# Altium integrated library Capacitores.IntLib: 57 symbols (part 2 of 2)
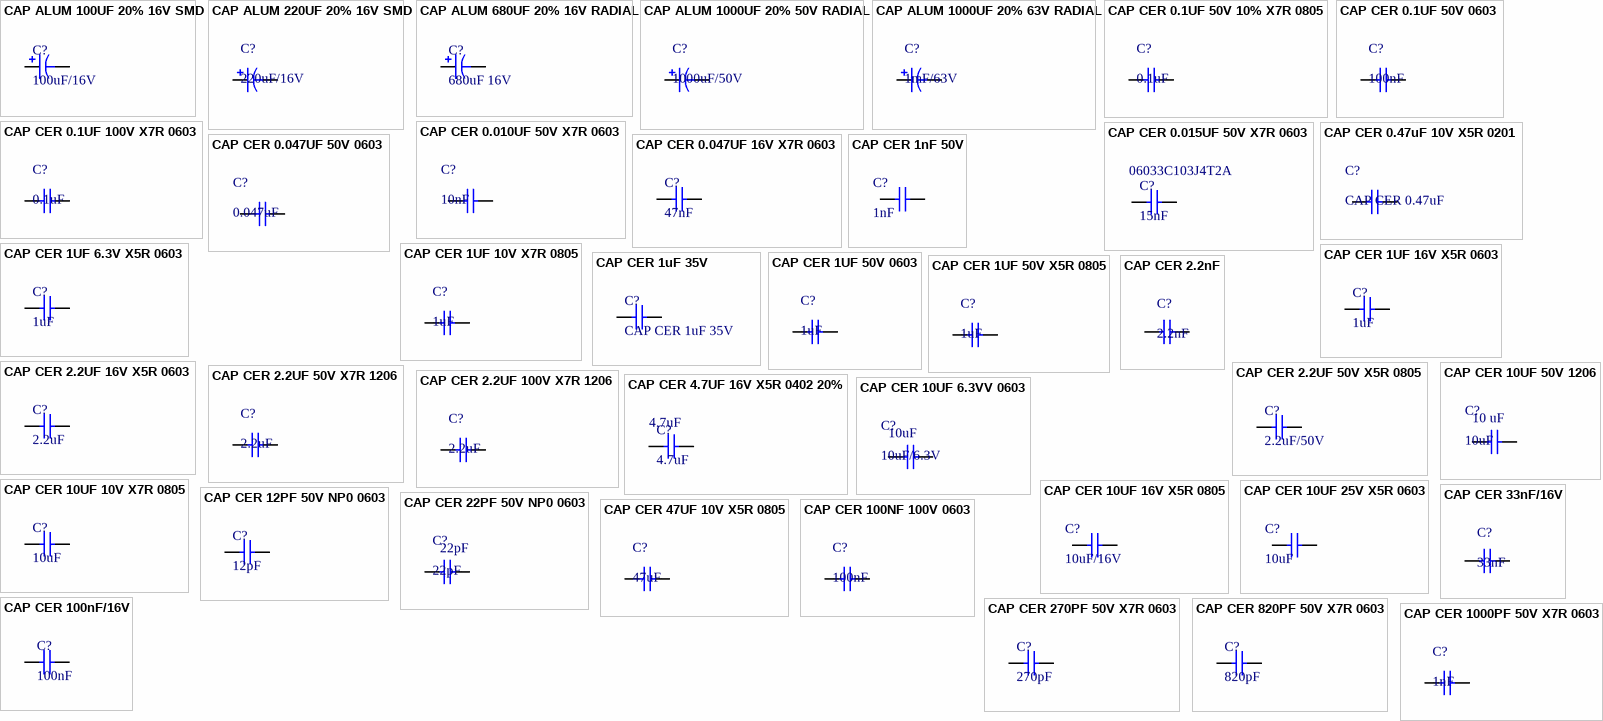
[diagram p2: symbols CAP ALUM 100UF 20% 16V SMD to CAP CER 1000PF 50V X7R 0603]

## CAP CER 1000PF 50V X7R 0603
designator C?, comment 1nF
CAP CER 1000PF 50V X7R 0603; Manufacturer: Murata Electronics North America; Manufacturer Part Number: GRM188R71H102KA01D; Tolerance: ±10%; Supplier 1: Digi-Key; RoHS: RoHS Compliant; Category: Capacitors; Stock 1: 1848606; Pricing 1: 1=0.1, 10=0.02, 50=0.0108, 100=0.0091, 250=0.00744, 500=0.00636, 1000=0.00495 (USD); Packaging: Cut Tape (CT); Part Status: Active; Capacitance: 1000pF; Voltage - Rated: 50V; Temperature Coefficient: X7R; Operating Temperature: -55°C ~ 125°C; Features: -; Ratings: -; Applications: General Purpose; Failure Rate: *; Mounting Type: Surface Mount, MLCC; Package / Case: 0603 (1608 Metric); Size / Dimension: 0.063" L x 0.031" W (1.60mm x 0.80mm); Height - Seated (Max): -; Thickness (Max): 0.035" (0.90mm); Lead Spacing: -; Lead Style: -; ComponentLink1URL: http://www.murata.com/~/media/webrenewal/support/library/catalog/products/capacitor/mlcc/c02e.pdf; ComponentLink1Description: http://www.murata.com/~/media/webrenewal/support/library/catalog/products/capacitor/mlcc/c02e.pdf; Supplier Part Number 1: 490-1494-1-ND
footprint CAP 0603 N (Chip Capacitor, 2-Leads, Body 1,60x0,80mm, IPC Medium Density)
pins: 1, 2

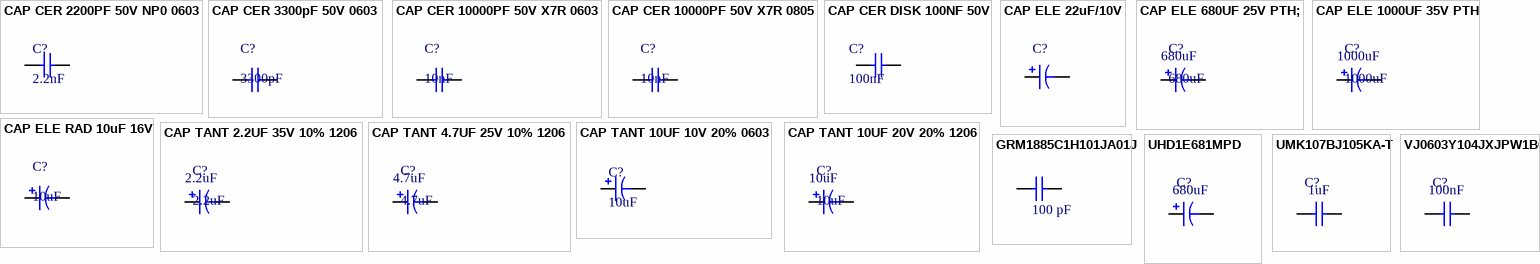
[diagram p1: symbols CAP CER 2200PF 50V NP0 0603 to VJ0603Y104JXJPW1BC]

## CAP CER 2200PF 50V NP0 0603
designator C?, comment 2.2nF
CAP CER 2200PF 50V NP0 0603; Manufacturer: Murata Electronics North America; Manufacturer Part Number: GRM1885C1H222FA01D; Tolerance: ±1%; Temperature Coefficient: C0G, NP0; Supplier 1: Digi-Key; RoHS: RoHS Compliant; Category: Capacitors; Stock 1: 102266; Pricing 1: 1=0.24, 10=0.164, 50=0.0996, 100=0.0836, 250=0.06768, 500=0.0597, 1000=0.05075 (USD); Packaging: Cut Tape (CT); Capacitance: 2200pF; Voltage - Rated: 50V; Mounting Type: Surface Mount, MLCC; Operating Temperature: -55°C ~ 125°C; Applications: General Purpose; Ratings: -; Package / Case: 0603 (1608 Metric); Size / Dimension: 0.063" L x 0.031" W (1.60mm x 0.80mm); Height - Seated (Max): -; Thickness (Max): 0.035" (0.90mm); Lead Spacing: -; Features: -; Lead Style: -; ComponentLink1URL: http://www.murata.com/~/media/webrenewal/support/library/catalog/products/capacitor/mlcc/c02e.pdf; ComponentLink1Description: http://www.murata.com/~/media/webrenewal/support/library/catalog/products/capacitor/mlcc/c02e.pdf; Supplier Part Number 1: 490-7768-1-ND
footprint CAP 0603 N (Chip, Body 1.6x0.8mm, IPC Medium Density)
pins: 1, 2

## CAP CER 3300pF 50V 0603
designator C?, comment 3300pF
Multilayer Ceramic Capacitors MLCC - SMD/SMT 0603 3300pF 50volts X7R 10%; Manufacturer: Murata Electronics; Manufacturer Part Number: GRM188R71H332KA01D; Type: General Purpose MLCC; Voltage Rating DC: 50 VDC; Supplier 1: Mouser; RoHS: RoHS Compliant; Category: Multilayer Ceramic Capacitors MLCC - SMD/SMT; Stock 1: 76987; Pricing 1: 1=0.10, 10=0.019, 100=0.012, 1000=0.009 (USD); Capacitance: 3300pF; Height: 0.8 mm; Length: 1.6 mm; Package / Case: 0603 (1608 metric); Packaging: Reel; Product: General Type MLCCs; Series: GCM; Termination Style: SMD/SMT; Tolerance: 10 %; Width: 0.8 mm; Brand: Murata Electronics; Case Code - in: 0603; Case Code - mm: 1608; Dielectric: X7R; Maximum Operating Temperature: + 125 C; Minimum Operating Temperature: - 55 C; Product Category: Multilayer Ceramic Capacitors MLCC - SMD/SMT; Standard Pack Qty: 4000; RoHS - Mouser: Y; Minimum Order Quantity: 1; Reeling: True; ComponentLink1URL: http://www.mouser.com/ds/2/281/c02e-2905.pdf; ComponentLink1Description: http://www.mouser.com/ds/2/281/c02e-2905.pdf; Supplier Part Number 1: 81-GRM188R71H332KA
footprint CAP CER 0603
pins: 1, 2

## CAP CER 10000PF 50V X7R 0603
designator C?, comment 10nF
CAP CER 10000PF 50V X7R 0603; Manufacturer: Murata Electronics North America; Manufacturer Part Number: GCM188R71H103KA37D; Tolerance: ±10%; Supplier 1: Digi-Key; RoHS: RoHS Compliant; Category: Capacitors; Stock 1: 480655; Pricing 1: 1=0.1, 10=0.042, 50=0.0228, 100=0.0193, 250=0.01576, 500=0.01348, 1000=0.0105 (USD); Packaging: Cut Tape (CT); Part Status: Active; Capacitance: 10000pF; Voltage - Rated: 50V; Temperature Coefficient: X7R; Operating Temperature: -55°C ~ 125°C; Features: -; Ratings: AEC-Q200; Applications: Automotive; Failure Rate: *; Mounting Type: Surface Mount, MLCC; Package / Case: 0603 (1608 Metric); Size / Dimension: 0.063" L x 0.031" W (1.60mm x 0.80mm); Height - Seated (Max): -; Thickness (Max): 0.035" (0.90mm); Lead Spacing: -; Lead Style: -; ComponentLink1URL: http://www.murata.com/~/media/webrenewal/support/library/catalog/products/capacitor/mlcc/c03e.ashx; ComponentLink1Description: http://www.murata.com/~/media/webrenewal/support/library/catalog/products/capacitor/mlcc/c03e.ashx; Supplier Part Number 1: 490-4778-1-ND
footprint CAP 0603 N (Chip Capacitor, 2-Leads, Body 1,60x0,80mm, IPC Medium Density)
pins: 1, 2

## CAP CER 10000PF 50V X7R 0805
designator C?, comment 10nF
CAP CER 10000PF 50V X7R 0805; Manufacturer: Kyocera / AVX; Manufacturer Part Number: 0805-5C-103-KAT-2A; Tolerance (%): ±10 %; Supplier 1: Digikey; Stock 1: 595858; Pricing 1: 1=0.1, 10=0.032, 25=0.0232, 50=0.0174, 100=0.0143, 250=0.0119, 500=0.0102, 1000=0.008 (USD); Capacitance: 10 nF; Case Size/Dimension: 0805; Dielectric: X7R; Rated Voltage: 50 V; ComponentLink1URL: https://datasheet.ciiva.com/150/cx7r-150245.pdf; ComponentLink1Description: https://datasheet.ciiva.com/150/cx7r-150245.pdf; ComponentLink2URL: https://datasheet.ciiva.com/150/cx7r-150246.pdf; ComponentLink2Description: https://datasheet.ciiva.com/150/cx7r-150246.pdf; ComponentLink3URL: https://datasheet.ciiva.com/150/cx7r-150247.pdf; ComponentLink3Description: https://datasheet.ciiva.com/150/cx7r-150247.pdf; ComponentLink4URL: https://datasheet.ciiva.com/7812/cx7r-7812071.pdf; ComponentLink4Description: https://datasheet.ciiva.com/7812/cx7r-7812071.pdf; ComponentLink5URL: https://datasheet.ciiva.com/7812/1679506-7812072.pdf; ComponentLink5Description: https://datasheet.ciiva.com/7812/1679506-7812072.pdf; ComponentLink6URL: https://datasheet.ciiva.com/14601/70001075-14601992.pdf; ComponentLink6Description: https://datasheet.ciiva.com/14601/70001075-14601992.pdf; ComponentLink7URL: https://datasheet.ciiva.com/19475/2009421-19475896.pdf; ComponentLink7Description: https://datasheet.ciiva.com/19475/2009421-19475896.pdf; ComponentLink8URL: https://datasheet.ciiva.com/7812/cx7r-7812073.pdf; ComponentLink8Description: https://datasheet.ciiva.com/7812/cx7r-7812073.pdf; ComponentLink9URL: https://datasheet.ciiva.com/11464/cx7r-11464361.pdf; ComponentLink9Description: https://datasheet.ciiva.com/11464/cx7r-11464361.pdf; ComponentLink10URL: https://datasheet.ciiva.com/2988/cx7r-2988011.pdf; ComponentLink10Description: https://datasheet.ciiva.com/2988/cx7r-2988011.pdf; ComponentLink11URL: https://datasheet.ciiva.com/5416/cx7r-218113-5416700.pdf; ComponentLink11Description: https://datasheet.ciiva.com/5416/cx7r-218113-5416700.pdf; ComponentLink12URL: https://datasheet.ciiva.com/14586/70001075-14586685.pdf; ComponentLink12Description: https://datasheet.ciiva.com/14586/70001075-14586685.pdf; ComponentLink13URL: https://datasheet.ciiva.com/11788/0900766b802d4698-11788126.pdf; ComponentLink13Description: https://datasheet.ciiva.com/11788/0900766b802d4698-11788126.pdf; Supplier Part Number 1: 478-1383-6-ND
footprint CAP 0805 M (Chip Capacitor, 2-Leads, Body 2,00x1,25mm, IPC Low Density)
pins: 1, 2

## CAP CER DISK 100NF 50V
designator C?, comment 100nF
CAP CER DISK 100NF 50V; Manufacturer Part Number: IMP14925; Product Range: MCFY Series; Capacitance: 0.1uF; Capacitance Tolerance: +80%, -20%; Dielectric Characteristic: Y5; Voltage Rating: 50; Capacitor Terminals: Radial Leaded; SVHC: No SVHC (15-Jun-2015); Supplier 1: Mult Comercial; Manufacturer: -; RoHS: YES; Stock 1: 115809; Pricing 1: 1=0.10 (BRL); Packaging: Each; Lead Spacing: 5; Operating Temperature Min: -25; Operating Temperature Max: 85; Capacitance Tolerance ±: +80%, -20%; Operating Temperature Range: -25°C to +85°C<!--FANDB--><div class="features-and-benefits-container"><div class="features-and-benefits-description"><span class="features-benefits-value">The MCFY series from Multicomp are radial leaded ceramic disc capacitors. The capacitance values ranges from 6800pF to 0.22?F.</span></div><div class="features-and-benefits-list"><ul class="features-and-benefits-list-list"><li class="features-and-benefits-list-item">Large capacitance in small size</li><li class="features-and-benefits-list-item">Rated voltage of 50V</li><li class="features-and-benefits-list-item">80%/-20% tolerance</li><li class="features-and-benefits-list-item">Operating temperature range -25°C to +85; ComponentLink1URL: http://loja.multcomercial.com.br/capacitor-ceramico-disco-100kpf-50v-104-100k-100nf-0-1uf-cod-1351.html; ComponentLink1Description: http://loja.multcomercial.com.br/capacitor-ceramico-disco-100kpf-50v-104-100k-100nf-0-1uf-cod-1351.html; Supplier Part Number 1: Capacitor Cerâmico Disco 100Kpf/50V (104/100K/100nF/0.1uF) cód. 1351
footprint CAP CER DISK 100NF 50V (Connector; Header; 5 Position)
pins: 1, 2

## CAP ELE 22uF/10V
designator C?, comment EEE-1AA220WR  (value not drawn)
CAP ALUM 22UF 20% 10V SMD; Manufacturer: Panasonic Electronic Components; Capacitance: 22µF; Lifetime @ Temp.: 1000 Hrs @ 85°C; Polarization: Polar; Ripple Current: 28mA @ 120Hz; Surface Mount Land Size: 0.169" L x 0.169" W (4.30mm x 4.30mm); Supplier 1: Digi-Key; Manufacturer Part Number: EEE-1AA220WR; RoHS: RoHS Compliant; Category: Capacitors; Stock 1: 39335; Pricing 1: 1=0.28, 10=0.194, 25=0.1552, 50=0.1294, 100=0.1101, 250=0.0874, 500=0.07768, 1000=0.06798 (USD); Packaging: Cut Tape (CT); Part Status: Active; Tolerance: ±20%; Voltage Rating: 10V; ESR (Equivalent Series Resistance): -; Operating Temperature: -40°C ~ 85°C; Applications: General Purpose; Impedance: -; Lead Spacing: -; Size / Dimension: 0.157" Dia (4.00mm); Height - Seated (Max): 0.213" (5.40mm); Mounting Type: Surface Mount; Package / Case: Radial, Can - SMD; ComponentLink1URL: https://industrial.panasonic.com/cdbs/www-data/pdf/RDE0000/ABA0000C1145.pdf; ComponentLink1Description: https://industrial.panasonic.com/cdbs/www-data/pdf/RDE0000/ABA0000C1145.pdf; Supplier Part Number 1: PCE3869CT-ND
footprint CAP ELE 4x5.5 (Aluminum Electrolytic Capacitor, Body 4,30x4,30x5,50mm, IPC Low Density)
pins: 1, 2

## CAP ELE 680UF 25V PTH;
designator C?, comment 680uF
Aluminum Electrolytic Capacitors - Leaded 25volts 680uF 20%; Manufacturer: Panasonic Electronic Components; Manufacturer Part Number: EEU-FC1E681; Capacitance: 680µF; Voltage Rating: 25V; Lifetime @ Temp.: 3000 Hrs @ 105°C; Polarization: Polar; Ripple Current: 1.08A @ 120Hz; Impedance: 52 mOhm; Supplier 1: Digi-Key; RoHS: RoHS Compliant; Category: Capacitors; Stock 1: 3167; Pricing 1: 1=0.71, 10=0.525, 25=0.45, 50=0.42, 100=0.36, 250=0.33, 500=0.285, 1000=0.24, 2500=0.225 (USD); Packaging: Bulk; Tolerance: ±20%; ESR (Equivalent Series Resistance): -; Operating Temperature: -55°C ~ 105°C; Applications: Automotive; Lead Spacing: 0.197" (5.00mm); Size / Dimension: 0.394" Dia (10.00mm); Height - Seated (Max): 0.787" (20.00mm); Surface Mount Land Size: -; Mounting Type: Through Hole; Package / Case: Radial, Can; ComponentLink1URL: http://industrial.panasonic.com/www-cgi/jvcr13pz.cgi?E+PZ+3+ABA0022+EEUFC1E681+7+WW; ComponentLink1Description: http://industrial.panasonic.com/www-cgi/jvcr13pz.cgi?E+PZ+3+ABA0022+EEUFC1E681+7+WW; Supplier Part Number 1: 680uF
footprint Radial 13x20mm
footprint Radial 13x20mm STAND
pins: 1, 2

## CAP ELE 1000UF 35V PTH
designator C?, comment 1000uF
Aluminum Electrolytic Capacitors - Leaded 35volts 1000uF 20%; Manufacturer: Panasonic Electronic Components; Manufacturer Part Number: ECA-1VM102; Capacitance: 1000µF; Voltage Rating: 35V; Lifetime @ Temp.: 2000 Hrs @ 85°C; Polarization: Polar; Ripple Current: 900mA @ 120Hz; Supplier 1: Digi-Key; RoHS: RoHS Compliant; Category: Capacitors; Stock 1: 17240; Pricing 1: 1=0.82, 10=0.602, 25=0.5156, 50=0.4814, 100=0.4126, 250=0.3782, 500=0.32662, 1000=0.27504, 2500=0.25785 (USD); Packaging: Bulk; Tolerance: ±20%; ESR (Equivalent Series Resistance): -; Operating Temperature: -40°C ~ 85°C; Applications: General Purpose; Impedance: -; Lead Spacing: 0.197" (5.00mm); Size / Dimension: 0.492" Dia (12.50mm); Height - Seated (Max): 0.866" (22.00mm); Surface Mount Land Size: -; Mounting Type: Through Hole; Package / Case: Radial, Can; ComponentLink1URL: http://industrial.panasonic.com/www-cgi/jvcr13pz.cgi?E+PZ+3+ABA0012+ECA1VM102+7+WW; ComponentLink1Description: http://industrial.panasonic.com/www-cgi/jvcr13pz.cgi?E+PZ+3+ABA0012+ECA1VM102+7+WW; Supplier Part Number 1: 1000uF
footprint Radial 13x20mm
footprint Radial 13x20mm STAND
footprint Radial 13x20mm - Inverted
pins: 1, 2

## CAP ELE RAD 10uF 16V
designator C?, comment 10uF
CAP ELE RAD 10uF 16V; Manufacturer Part Number: IMP1295; Product Range: MCGPR Series; Capacitance Tolerance: ± 20%; Voltage Rating: 16; Capacitor Terminals: Radial Leaded; Lifetime @ Temperature: 2000 hours @ 85; SVHC: No SVHC (15-Jun-2015); Leakage Current: 6; Supplier 1: Mult Comercial; Manufacturer: -; RoHS: YES; Stock 1: 33826; Pricing 1: 1=0.50 (BRL); Capacitance: 10uF; Diameter: 5; Packaging: Each; ESR: -; Height: 11; Lead Spacing: 2; Operating Temperature Min: -40; Operating Temperature Max: 85; Capacitance Tolerance ±: ± 20%; Operating Temperature Range: -40°C to +85°C<!--FANDB--><div class="features-and-benefits-container"><div class="features-and-benefits-description"><span class="features-benefits-value">The Multicomp MCGPR series capacitors are general purpose, radial leaded polarized aluminium electrolytic capacitors. MCGPR series parts cover broad range of voltage ratings and capacitance values.</span></div><div class="features-and-benefits-list"><ul class="features-and-benefits-list-list"><li class="features-and-benefits-list-item">Capacitance value ranges from 0.1µF to 22000µF for 6.3VDC to 100VDC</li><li class="features-and-benefits-list-item">Capacitance value ranges from 0.47µF to 820µF for 160VDC to 450VDC</li><li class="features-and-benefits-list-item">Tolerance of ±20%</li><li class="features-and-benefits-list-item">Endurance of 2000h at 85°C</li><li class="features-and-benefits-list-item">Available in -40°C to 85°C and -25°C to 85; ComponentLink1URL: http://loja.multcomercial.com.br/capacitor-eletrolitico-10uf-16v.html; ComponentLink1Description: http://loja.multcomercial.com.br/capacitor-eletrolitico-10uf-16v.html; Supplier Part Number 1: Capacitor Eletrolítico 10uF/16V
footprint CAP RAD 10UF 35V
pins: 1, 2

## CAP TANT 2.2UF 35V 10% 1206
designator C?, comment 2.2uF
Tantalum Capacitors - Solid SMD 35volts 2.2uF 3.2x1.6; Manufacturer: AVX Corporation; Manufacturer Part Number: TAJA225K035RNJ; Manufacturer Size Code: A; Capacitance: 2.2µF; Tolerance: ±10%; Voltage - Rated: 35V; ESR (Equivalent Series Resistance): 4.5 Ohm; Type: Molded; Supplier 1: Digi-Key; RoHS: RoHS Compliant; Category: Capacitors; Stock 1: 5729; Pricing 1: 1=1.01, 10=0.846, 100=0.54, 250=0.45, 500=0.405, 1000=0.369 (USD); Packaging: Cut Tape (CT); Operating Temperature: -55°C ~ 125°C; Mounting Type: Surface Mount; Package / Case: 1206 (3216 Metric); Size / Dimension: 0.126" L x 0.063" W (3.20mm x 1.60mm); Height - Seated (Max): 0.071" (1.80mm); Lead Spacing: -; Features: General Purpose; Lifetime @ Temp.: -; ComponentLink1URL: http://datasheets.avx.com/TAJ.pdf; ComponentLink1Description: http://datasheets.avx.com/TAJ.pdf; Supplier Part Number 1: 2.2uF
footprint CAP-3216 (Chip Capacitor; Body 3.2 x 1.6 mm (LxW typ))
pins: 1, 2

## CAP TANT 4.7UF 25V 10% 1206
designator C?, comment 4.7uF
Tantalum Capacitors - Solid SMD 25volts 4.7uF 3.2x1.6; Manufacturer: AVX Corporation; Manufacturer Part Number: TAJA475K025RNJ; Manufacturer Size Code: A; Capacitance: 4.7µF; Tolerance: ±10%; Voltage - Rated: 25V; ESR (Equivalent Series Resistance): 3.1 Ohm; Type: Molded; Supplier 1: Digi-Key; RoHS: RoHS Compliant; Category: Capacitors; Stock 1: 0; Pricing 1: 6000=0.165 (USD); Packaging: Tape & Reel (TR); Operating Temperature: -55°C ~ 125°C; Mounting Type: Surface Mount; Package / Case: 1206 (3216 Metric); Size / Dimension: 0.126" L x 0.063" W (3.20mm x 1.60mm); Height - Seated (Max): 0.071" (1.80mm); Lead Spacing: -; Features: General Purpose; Lifetime @ Temp.: -; ComponentLink1URL: http://datasheets.avx.com/TAJ.pdf; ComponentLink1Description: http://datasheets.avx.com/TAJ.pdf; Supplier Part Number 1: 4.7uF
footprint CAP-3216 (Chip Capacitor; Body 3.2 x 1.6 mm (LxW typ))
pins: 1, 2

## CAP TANT 10UF 10V 20% 0603
designator C?, comment 10uF
CAP TANT 10UF 10V 20% 0603; Manufacturer: AVX Corporation; Manufacturer Part Number: F981A106MMA; Manufacturer Size Code: M; Capacitance: 10µF; Type: Molded; ESR (Equivalent Series Resistance): 7.5 Ohm; Supplier 1: Digi-Key; RoHS: RoHS Compliant; Category: Capacitors; Stock 1: 28241; Pricing 1: 1=0.66, 10=0.485, 25=0.416, 50=0.3882, 100=0.3328, 250=0.30504, 500=0.26346, 1000=0.22186 (USD); Packaging: Cut Tape (CT); Part Status: Active; Tolerance: ±20%; Voltage - Rated: 10V; Operating Temperature: -55°C ~ 125°C; Lifetime @ Temp.: -; Mounting Type: Surface Mount; Package / Case: 0603 (1608 Metric); Size / Dimension: 0.063" L x 0.033" W (1.60mm x 0.85mm); Height - Seated (Max): 0.035" (0.90mm); Lead Spacing: -; Features: General Purpose; Failure Rate: -; ComponentLink1URL: http://datasheets.avx.com/F98.pdf; ComponentLink1Description: http://datasheets.avx.com/F98.pdf
footprint Capacitor-0603 (Chip Capacitor; Body 1.6 x 0.8 mm (LxW typ))
pins: 1, 2

## CAP TANT 10UF 20V 20% 1206
designator C?, comment 10uF
Tantalum Capacitors - Solid SMD 20volts 10uF 3.2x1.6; Manufacturer: AVX Corporation; Manufacturer Part Number: F931D106MAA; Manufacturer Size Code: A; Capacitance: 10µF; Tolerance: ±20%; Voltage - Rated: 20V; ESR (Equivalent Series Resistance): 3.5 Ohm; Type: Molded; Supplier 1: Digi-Key; RoHS: RoHS Compliant; Category: Capacitors; Stock 1: 8063; Pricing 1: 1=0.58, 10=0.555, 100=0.2691, 250=0.22356, 500=0.20286, 1000=0.1863 (USD); Packaging: Digi-Reel®; Operating Temperature: -55°C ~ 125°C; Mounting Type: Surface Mount; Package / Case: 1206 (3216 Metric); Size / Dimension: 0.126" L x 0.063" W (3.20mm x 1.60mm); Height - Seated (Max): 0.071" (1.80mm); Lead Spacing: -; Features: General Purpose; Lifetime @ Temp.: -; ComponentLink1URL: http://datasheets.avx.com/f93.pdf; ComponentLink1Description: http://datasheets.avx.com/f93.pdf; Supplier Part Number 1: 10uF
footprint CAPACITOR-3216 (Chip Capacitor; Body 3.2 x 1.6 mm (LxW typ))
pins: 1, 2

## GRM1885C1H101JA01J
designator C?  Capacitance: 100 pF  (hidden comment: *)
Multilayer Ceramic Capacitors MLCC - SMD/SMT 0603 100pF 50volts C0G 5%; Manufacturer: Murata; Manufacturer Part Number: GRM1885C1H101JA01J; Rated Voltage: 50 V; Supplier 1: Mouser; Stock 1: 8317; Pricing 1: 1=0.1, 10=0.035, 50=0.035, 100=0.024, 1000=0.016, 10000=0.011 (USD); Case Size/Dimension: 0603; Dielectric: C0G; Tolerance (%): ±5 %; ComponentLink1URL: https://datasheet.ciiva.com/18100/getdatasheetpartid-26824-18100644.pdf; ComponentLink1Description: https://datasheet.ciiva.com/18100/getdatasheetpartid-26824-18100644.pdf; ComponentLink2URL: https://datasheet.ciiva.com/45259/partnumbering-e-01-45259466.pdf; ComponentLink2Description: https://datasheet.ciiva.com/45259/partnumbering-e-01-45259466.pdf; ComponentLink3URL: https://datasheet.ciiva.com/11605/product-11605547.pdf; ComponentLink3Description: https://datasheet.ciiva.com/11605/product-11605547.pdf; ComponentLink4URL: https://datasheet.ciiva.com/16624/product-16624139.pdf; ComponentLink4Description: https://datasheet.ciiva.com/16624/product-16624139.pdf; ComponentLink5URL: https://datasheet.ciiva.com/164/partnumbering-e-01-164252.pdf; ComponentLink5Description: https://datasheet.ciiva.com/164/partnumbering-e-01-164252.pdf; ComponentLink6URL: https://datasheet.ciiva.com/19467/1856644-19467772.pdf; ComponentLink6Description: https://datasheet.ciiva.com/19467/1856644-19467772.pdf; Supplier Part Number 1: 81-GRM39C101J50J
footprint CAP 0603 N (Chip Capacitor, 2-Leads, Body 1,60x0,80mm, IPC Medium Density)
pins: 1, 2

## UHD1E681MPD
designator C?  value 680uF  (hidden comment: UHD1E681MPD)
Aluminum Electrolytic Capacitors - Leaded 25volts 680uF 10x20 20% 5LS; Manufacturer: Nichicon; Voltage Rating DC: 25 V; Leakage Current: 170 uA; Case Diameter: 10 mm; Case Length: 20 mm; Dissipation Factor DF: 0.14; Load Life: 4000 h; Ripple Current: 1820 mA; Supplier 1: Mouser; Manufacturer Part Number: UHD1E681MPD; RoHS: RoHS Compliant; Category: Aluminum Electrolytic Capacitors - Leaded; Stock 1: 0; Pricing 1: 1=0.817, 10=0.595, 100=0.319, 500=0.279, 5000=0.212 (AUD); Capacitance: 680 uF; Dimensions: 10 mm Dia. x 20 mm L; Packaging: Bulk; Product: Low Impedance Electrolytic Capacitors; Series: HD; Termination Style: Radial; Tolerance: 20 %; Brand: Nichicon; Lead Spacing: 5 mm; Lead Style: Straight; Maximum Operating Temperature: + 105 C; Product Category: Low Impedance Aluminum Electrolytic Capacitors; Standard Pack Qty: 200; RoHS - Mouser: Y; Minimum Order Quantity: 1; Reeling: False; ComponentLink1URL: http://www.mouser.com/ds/2/293/e-hd-22785.pdf; ComponentLink1Description: http://www.mouser.com/ds/2/293/e-hd-22785.pdf; Supplier Part Number 1: 647-UHD1E681MPD
footprint Radial 13x20mm
footprint Radial 13x20mm (mirror)
pins: 1, 2

## UMK107BJ105KA-T
designator C?  value 1uF  (hidden comment: UMK107BJ105KA-T)
Multilayer Ceramic Capacitors MLCC - SMD/SMT Midhigh 0603 X5R 50V 1uF 10%; Manufacturer: Taiyo Yuden; Type: Industrial/Automotive and Safety; Case Height: 0.8 mm; Case Length: 1.6 mm; Temperature Coefficient / Code: +/- 15 %; Supplier 1: Mouser; Manufacturer Part Number: UMK107BJ105KA-T; RoHS: RoHS Compliant; Category: Multilayer Ceramic Capacitors MLCC - SMD/SMT; Stock 1: 211765; Pricing 1: 1=0.238, 10=0.095, 100=0.065, 500=0.055, 1000=0.046, 4000=0.036, 8000=0.033, 12000=0.031, 24000=0.030 (AUD); Capacitance: 1 uF; Operating Temperature Range: - 55 C to + 125 C; Package / Case: 0603 (1608 metric); Packaging: Reel; Product: General Type MLCCs; Series: M; Termination Style: SMD/SMT; Tolerance: 10 %; Voltage Rating DC: 50 V; Brand: Taiyo Yuden; Case Code - in: 0603; Case Code - mm: 1608; Case Width: 0.8 mm; Dielectric: X5R; Maximum Operating Temperature: + 85 C; Minimum Operating Temperature: - 55 C; Standard Pack Qty: 4000; RoHS - Mouser: Y; Minimum Order Quantity: 1; Reeling: True; ComponentLink1URL: http://www.mouser.com/ds/2/396/mlcc_all_e-541559.pdf; ComponentLink1Description: http://www.mouser.com/ds/2/396/mlcc_all_e-541559.pdf; Supplier Part Number 1: 963-UMK107BJ105KA-T
footprint Capacitor-0603 (Chip Capacitor; Body 1.6 x 0.8 mm (LxW typ))
pins: 1, 2

## VJ0603Y104JXJPW1BC
designator C?  value 100nF  (hidden comment: VJ0603Y104JXJPW1BC)
Multilayer Ceramic Capacitors MLCC - SMD/SMT 0603 0.1uF 16volts X7R 5%; Manufacturer: Vishay / Vitramon; Type: Ultra Small Commodity MLCCs; Voltage Rating DC: 16 V; Case Height: 0.95 mm; Case Length: 1.6 mm; Case Width: 0.8 mm; Dissipation Factor DF: 3.5; Temperature Coefficient / Code: +/- 15 %; Supplier 1: Mouser; Manufacturer Part Number: VJ0603Y104JXJPW1BC; RoHS: RoHS Compliant; Category: Multilayer Ceramic Capacitors MLCC - SMD/SMT; Stock 1: 111624; Pricing 1: 1=0.089, 50=0.036, 100=0.028, 500=0.025, 1000=0.022, 15000=0.018, 75000=0.016 (AUD); Capacitance: 0.1 uF; Operating Temperature Range: - 55 C to + 125 C; Package / Case: 0603 (1608 metric); Packaging: Reel; Product: General Type MLCCs; Series: VJ W1BC; Termination Style: SMD/SMT; Tolerance: 5 %; Voltage Rating AC: -; Brand: Vishay / Vitramon; Case Code - in: 0603; Case Code - mm: 1608; Dielectric: X7R; Maximum Operating Temperature: + 125 C; Minimum Operating Temperature: - 55 C; Product Category: Ceramic Chip Capacitors; Standard Pack Qty: 15000; RoHS - Mouser: Y; Minimum Order Quantity: 1; Reeling: True; ComponentLink1URL: http://www.mouser.com/ds/2/427/vjw1bcbascomseries-223529.pdf; ComponentLink1Description: http://www.mouser.com/ds/2/427/vjw1bcbascomseries-223529.pdf; Supplier Part Number 1: 77-VJ0603Y104JXJPBC
footprint Capacitor-0603 (Chip Capacitor; Body 1.6 x 0.8 mm (LxW typ))
pins: 1, 2